# Altium footprint library FDD3N40TM.PcbLib: 1 footprints
Each footprint in its own frame and in the unit in brackets; x right, y up, seen from the top. Pads: shape width x height; smd on the part's side, far side on the other; paste and mask are expansions set on the pad; w line width, h text height; cw(c..) or ccw(c..) is an arc to the next point about the centre after c.
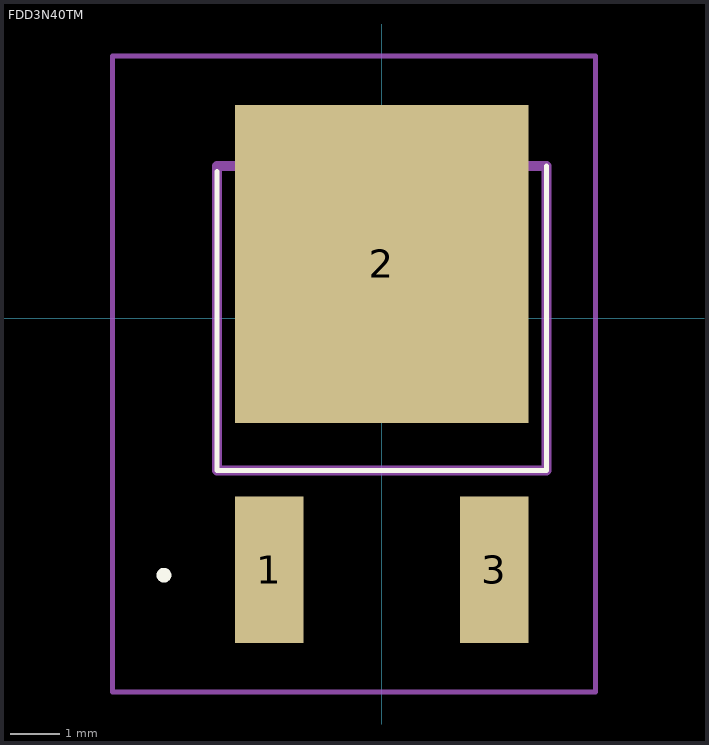
[diagram p0: the footprint, top view; thin cyan lines are the x and y axes]

## FDD3N40TM [mm]
pads (3):
  rect 1.4x3 smd: 1(-2.3,-5.14) 3(2.3,-5.14)
  rect 6x6.5 smd: 2(0,1.11)
Top Overlay:
  lines w0.1: -3.365,-3.11 -3.365,3 ; -3.365,-3.11 -3.365,-3.11 ; -3.365,-3.11 -3.365,3 ; -3.365,-3.11 3.365,-3.11 ; -3.365,-3.11 3.365,-3.11 ; -3.365,-3.11 -3.365,-3.11 ; -3.365,3 -3.365,3 ; 3.365,-3.11 3.365,-3.11 ; 3.365,-3.11 3.365,-3.11 ; 3.365,-3.11 3.365,3.11 ; 3.365,-3.11 3.365,3.11 ; 3.365,3.11 3.365,3.11
  lines w0.2: -4.5,-5.25 -4.5,-5.25 ; -4.5,-5.25 ccw(c-4.45,-5.25) -4.4,-5.25 ; -4.5,-5.25 cw(c-4.45,-5.25) -4.4,-5.25 ; -4.5,-5.25 -4.5,-5.25 ; -4.5,-5.25 ccw(c-4.45,-5.25) -4.4,-5.25 ; -4.4,-5.25 -4.4,-5.25
Mechanical 15:
  lines w0.2: -3.365,-3.11 3.365,-3.11 3.365,3.11 -3.365,3.11 -3.365,-3.11
Mechanical 20:
  lines w0.1: -5.5,-7.64 4.365,-7.64 4.365,5.36 -5.5,5.36 -5.5,-7.64